# Altium footprint library LIS2DH.PcbLib: 2 footprints
Each footprint in its own frame and in the unit in brackets; x right, y up, seen from the top. Pads: shape width x height; smd on the part's side, far side on the other; paste and mask are expansions set on the pad; w line width, h text height; cw(c..) or ccw(c..) is an arc to the next point about the centre after c.
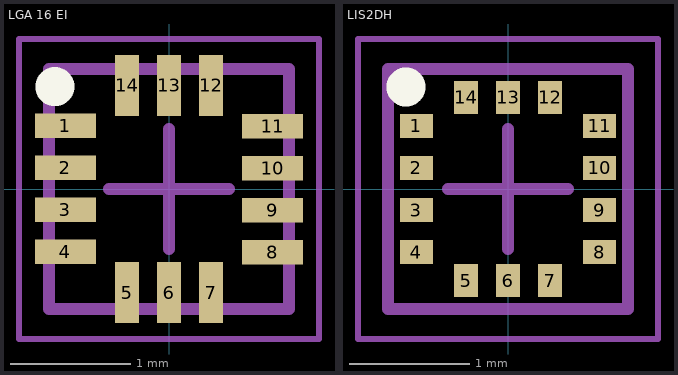
[diagram p0: the footprints below, top view; thin cyan lines are the x and y axes]

## LGA 16 EI [mil]
pads (14):
  rect 20x8.03 smd: 1(-34,20.78) 2(-34,7) 3(-34,-6.78) 4(-34,-20.56) 8(33.98,-20.78) 9(34,-7) 10(34,6.78) 11(34,20.56)
  rect 8x20 smd: 5(-13.78,-34) 6(0,-34) 7(13.78,-34) 12(13.78,34) 13(0,34) 14(-13.78,34)
Top Overlay:
  circle w10: c-37.43,33.57 r1.39
Mechanical 13:
  lines w3.94: -39.37,-39.37 39.37,-39.37 39.37,39.37 -39.37,39.37 -39.37,-39.37
Mechanical 15:
  lines w1.97: -49.21,-49.21 49.21,-49.21 49.21,49.21 -49.21,49.21 -49.21,-49.21
  lines w3.94: -19.68,0 19.69,0 ; 0,-19.68 0,19.68
3D body: height 39.37, standoff 7.87, extent -39.37,-39.37 39.37,39.37

## LIS2DH [mm] "14 Pin LGA"
height 1
pads (14):
  rect 0.275x0.2 smd: 1(-0.763,0.525) 2(-0.763,0.175) 3(-0.763,-0.175) 4(-0.763,-0.525) 8(0.763,-0.525) 9(0.763,-0.175) 10(0.763,0.175) 11(0.763,0.525)
  rect 0.2x0.275 smd: 5(-0.35,-0.763) 6(0,-0.763) 7(0.35,-0.763) 12(0.35,0.763) 13(0,0.763) 14(-0.35,0.763)
Top Overlay:
  circle w0.254: c-0.85,0.85 r0.035
Mechanical 13:
  lines w0.1: -1,-1 1,-1 1,1 -1,1 -1,-1
Mechanical 15:
  lines w0.05: -1.25,-1.25 1.25,-1.25 1.25,1.25 -1.25,1.25 -1.25,-1.25
  lines w0.1: -0.5,0 0.5,0 ; 0,-0.5 0,0.5
3D body: height 1, standoff 0.2, extent -1,-1 1,1